# Altium schematic symbol library KAM15AR71H104KM.SchLib: 1 symbol
Pins are listed as number, name and electrical type; pins without a type are passive.

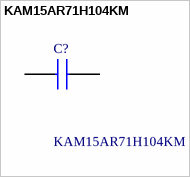
[diagram p0: symbol KAM15AR71H104KM]

## KAM15AR71H104KM
designator C?
Multilayer Ceramic Capacitors MLCC - SMD/SMT 50V .1uF X7R 0603 10% AEC-Q200; Manufacturer_Name: Kyocera AVX; Geometry.Height: 0.9mm; Mouser Part Number: 581-KAM15AR71H104KM; Mouser Price/Stock: https://www.mouser.co.uk/ProductDetail/KYOCERA-AVX/KAM15AR71H104KM?qs=Jm2GQyTW%2FbgzS5FHJWrFzQ%3D%3D; Manufacturer_Part_Number: KAM15AR71H104KM; Datasheet Link: https://datasheets.kyocera-avx.com/AutoMLCCKAM.pdf
footprint CAPC1608X90N
pins: 1, 2